# Altium footprint library Voltage_Regulators_Linear.PcbLib: 6 footprints
Each footprint in its own frame and in the unit in brackets; x right, y up, seen from the top. Pads: shape width x height; smd on the part's side, far side on the other; paste and mask are expansions set on the pad; w line width, h text height; cw(c..) or ccw(c..) is an arc to the next point about the centre after c.
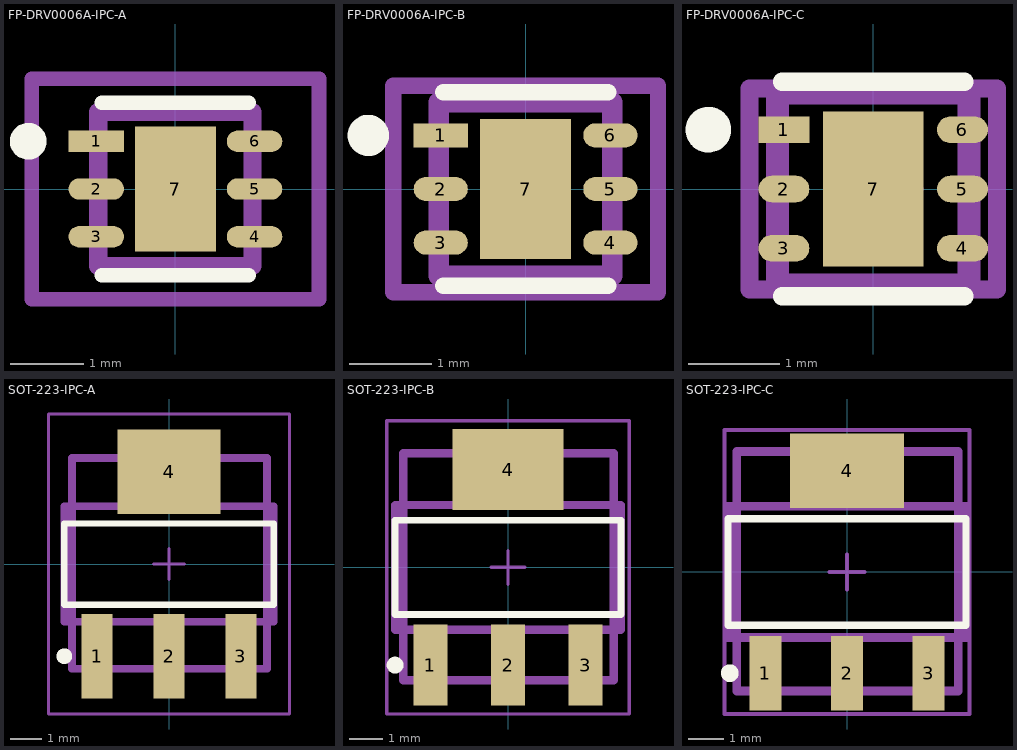
[diagram p0: the footprints below, top view; thin cyan lines are the x and y axes]

## FP-DRV0006A-IPC-A [mm]
pads (7):
  rect 0.756x0.292 smd paste+0 mask+0: 1(-1.078,0.65)
  rrect100% 0.756x0.292 smd paste+0 mask+0: 2(-1.078,0) 3(-1.078,-0.65) 4(1.078,-0.65) 5(1.078,0) 6(1.078,0.65)
  rect 1.1x1.7 smd paste-1000 mask+0: 7(0,0)
Top Overlay:
  circle w0.25: c-2.006,0.65 r0.125
  lines w0.2: -1,-1.175 1,-1.175 ; -1,1.175 1,1.175
Top Paste:
  rectangle: -0.308,-0.608 0.308,0.608
Top Assembly:
  lines w0.2: -1.956,-1.5 1.956,-1.5 1.956,1.5 -1.956,1.5 -1.956,-1.5
Top Component Center:
  lines w0.1: -0.5,0 0.5,0 ; 0,-0.5 0,0.5
Top Component Outline:
  lines w0.25: -1.05,-1.05 -1.05,1.05 1.05,1.05 1.05,-1.05 -1.05,-1.05
Top Courtyard:
  lines w0.1: -1.956,-1.5 1.956,-1.5 1.956,1.5 -1.956,1.5 -1.956,-1.5
Top Designator:
  text ".Designator" at -7.63,-0.521 h1.52
3D body "IC_Texas_Instruments_TPS7A2501DRVR_eec.STEP": height 0.25, standoff 0, extent -1.956,-1.5 1.956,1.5

## FP-DRV0006A-IPC-B [mm]
pads (7):
  rect 0.656x0.292 smd paste+0 mask+0: 1(-1.028,0.65)
  rrect100% 0.656x0.292 smd paste+0 mask+0: 2(-1.028,0) 3(-1.028,-0.65) 4(1.028,-0.65) 5(1.028,0) 6(1.028,0.65)
  rect 1.1x1.7 smd paste-1000 mask+0: 7(0,0)
Top Overlay:
  circle w0.25: c-1.906,0.65 r0.125
  lines w0.2: -1,-1.175 1,-1.175 ; -1,1.175 1,1.175
Top Paste:
  rectangle: -0.308,-0.608 0.308,0.608
Top Assembly:
  lines w0.2: -1.606,-1.25 1.606,-1.25 1.606,1.25 -1.606,1.25 -1.606,-1.25
Top Component Center:
  lines w0.1: -0.5,0 0.5,0 ; 0,-0.5 0,0.5
Top Component Outline:
  lines w0.25: -1.05,-1.05 -1.05,1.05 1.05,1.05 1.05,-1.05 -1.05,-1.05
Top Courtyard:
  lines w0.1: -1.606,-1.25 1.606,-1.25 1.606,1.25 -1.606,1.25 -1.606,-1.25
Top Designator:
  text ".Designator" at -7.63,-0.521 h1.52
3D body "IC_Texas_Instruments_TPS7A2501DRVR_eec.STEP": height 0.25, standoff 0, extent -1.606,-1.25 1.606,1.25

## FP-DRV0006A-IPC-C [mm]
pads (7):
  rect 0.556x0.292 smd paste+0 mask+0: 1(-0.978,0.65)
  rrect100% 0.556x0.292 smd paste+0 mask+0: 2(-0.978,0) 3(-0.978,-0.65) 4(0.978,-0.65) 5(0.978,0) 6(0.978,0.65)
  rect 1.1x1.7 smd paste-1000 mask+0: 7(0,0)
Top Overlay:
  circle w0.25: c-1.806,0.65 r0.125
  lines w0.2: -1,-1.175 1,-1.175 ; -1,1.175 1,1.175
Top Paste:
  rectangle: -0.308,-0.608 0.308,0.608
Top Assembly:
  lines w0.2: -1.356,-1.1 -1.356,1.1 1.356,1.1 1.356,-1.1 -1.356,-1.1
Top Component Center:
  lines w0.1: -0.5,0 0.5,0 ; 0,-0.5 0,0.5
Top Component Outline:
  lines w0.25: -1.05,-1.05 -1.05,1.05 1.05,1.05 1.05,-1.05 -1.05,-1.05
Top Courtyard:
  lines w0.1: -1.356,-1.1 1.356,-1.1 1.356,1.1 -1.356,1.1 -1.356,-1.1
Top Designator:
  text ".Designator" at -7.63,-0.521 h1.52
3D body "IC_Texas_Instruments_TPS7A2501DRVR_eec.STEP": height 0.25, standoff 0, extent -1.356,-1.1 1.356,1.1

## SOT-223-IPC-A [mm]
pads (4):
  rect 1x2.7 smd: 1(-2.3,-2.95) 2(0,-2.95) 3(2.3,-2.95)
  rect 3.3x2.7 smd: 4(0,2.95)
Top Overlay:
  circle w0.25: c-3.35,-2.95 r0.125
  lines w0.2: -3.35,-1.3 3.35,-1.3 3.35,1.3 -3.35,1.3 -3.35,-1.3
Top Assembly:
  lines w0.25: -3.105,-3.352 3.133,-3.352 3.133,3.389 -3.105,3.389 -3.105,-3.352
Top Component Center:
  lines w0.1: -0.5,0 0.5,0 ; 0,-0.5 0,0.5
Top Component Outline:
  lines w0.25: -3.35,-1.85 3.35,-1.85 3.35,1.85 -3.35,1.85 -3.35,-1.85
Top Courtyard:
  lines w0.1: -3.85,-4.8 3.85,-4.8 3.85,4.8 -3.85,4.8 -3.85,-4.8
Top Designator:
  text ".Designator" at -7.63,-0.521 h1.52
3D body "ld1117s33tr.stp": height 1.51, standoff -0.05, extent -3.233,-3.483 3.267,3.517

## SOT-223-IPC-B [mm]
pads (4):
  rect 1x2.4 smd: 1(-2.3,-2.9) 2(0,-2.9) 3(2.3,-2.9)
  rect 3.3x2.4 smd: 4(0,2.9)
Top Overlay:
  circle w0.25: c-3.35,-2.9 r0.125
  lines w0.2: -3.35,-1.4 -3.35,1.4 3.35,1.4 3.35,-1.4 -3.35,-1.4
Top Assembly:
  lines w0.25: -3.105,-3.352 3.133,-3.352 3.133,3.389 -3.105,3.389 -3.105,-3.352
Top Component Center:
  lines w0.1: -0.5,0 0.5,0 ; 0,-0.5 0,0.5
Top Component Outline:
  lines w0.25: -3.35,-1.85 -3.35,1.85 3.35,1.85 3.35,-1.85 -3.35,-1.85
Top Courtyard:
  lines w0.1: -3.6,-4.35 -3.6,4.35 3.6,4.35 3.6,-4.35 -3.6,-4.35
Top Designator:
  text ".Designator" at -7.63,-0.521 h1.52
3D body "ld1117s33tr.stp": height 1.51, standoff -0.05, extent -3.233,-3.483 3.267,3.517

## SOT-223-IPC-C [mm]
pads (4):
  rect 0.9x2.1 smd: 1(-2.3,-2.85) 2(0,-2.85) 3(2.3,-2.85)
  rect 3.2x2.1 smd: 4(0,2.85)
Top Overlay:
  circle w0.25: c-3.3,-2.85 r0.125
  lines w0.2: -3.35,-1.5 3.35,-1.5 3.35,1.5 -3.35,1.5 -3.35,-1.5
Top Assembly:
  lines w0.25: -3.105,-3.352 -3.105,3.389 3.133,3.389 3.133,-3.352 -3.105,-3.352
Top Component Center:
  lines w0.1: -0.5,0 0.5,0 ; 0,-0.5 0,0.5
Top Component Outline:
  lines w0.25: -3.35,-1.85 3.35,-1.85 3.35,1.85 -3.35,1.85 -3.35,-1.85
Top Courtyard:
  lines w0.1: -3.45,-4 3.45,-4 3.45,4 -3.45,4 -3.45,-4
Top Designator:
  text ".Designator" at -7.63,-0.521 h1.52
3D body "ld1117s33tr.stp": height 1.51, standoff -0.05, extent -3.233,-3.483 3.267,3.517